# Altium footprint library Inductors_SMD.PcbLib: 18 footprints (part 1 of 2)
Each footprint in its own frame and in the unit in brackets; x right, y up, seen from the top. Pads: shape width x height; smd on the part's side, far side on the other; paste and mask are expansions set on the pad; w line width, h text height; cw(c..) or ccw(c..) is an arc to the next point about the centre after c.
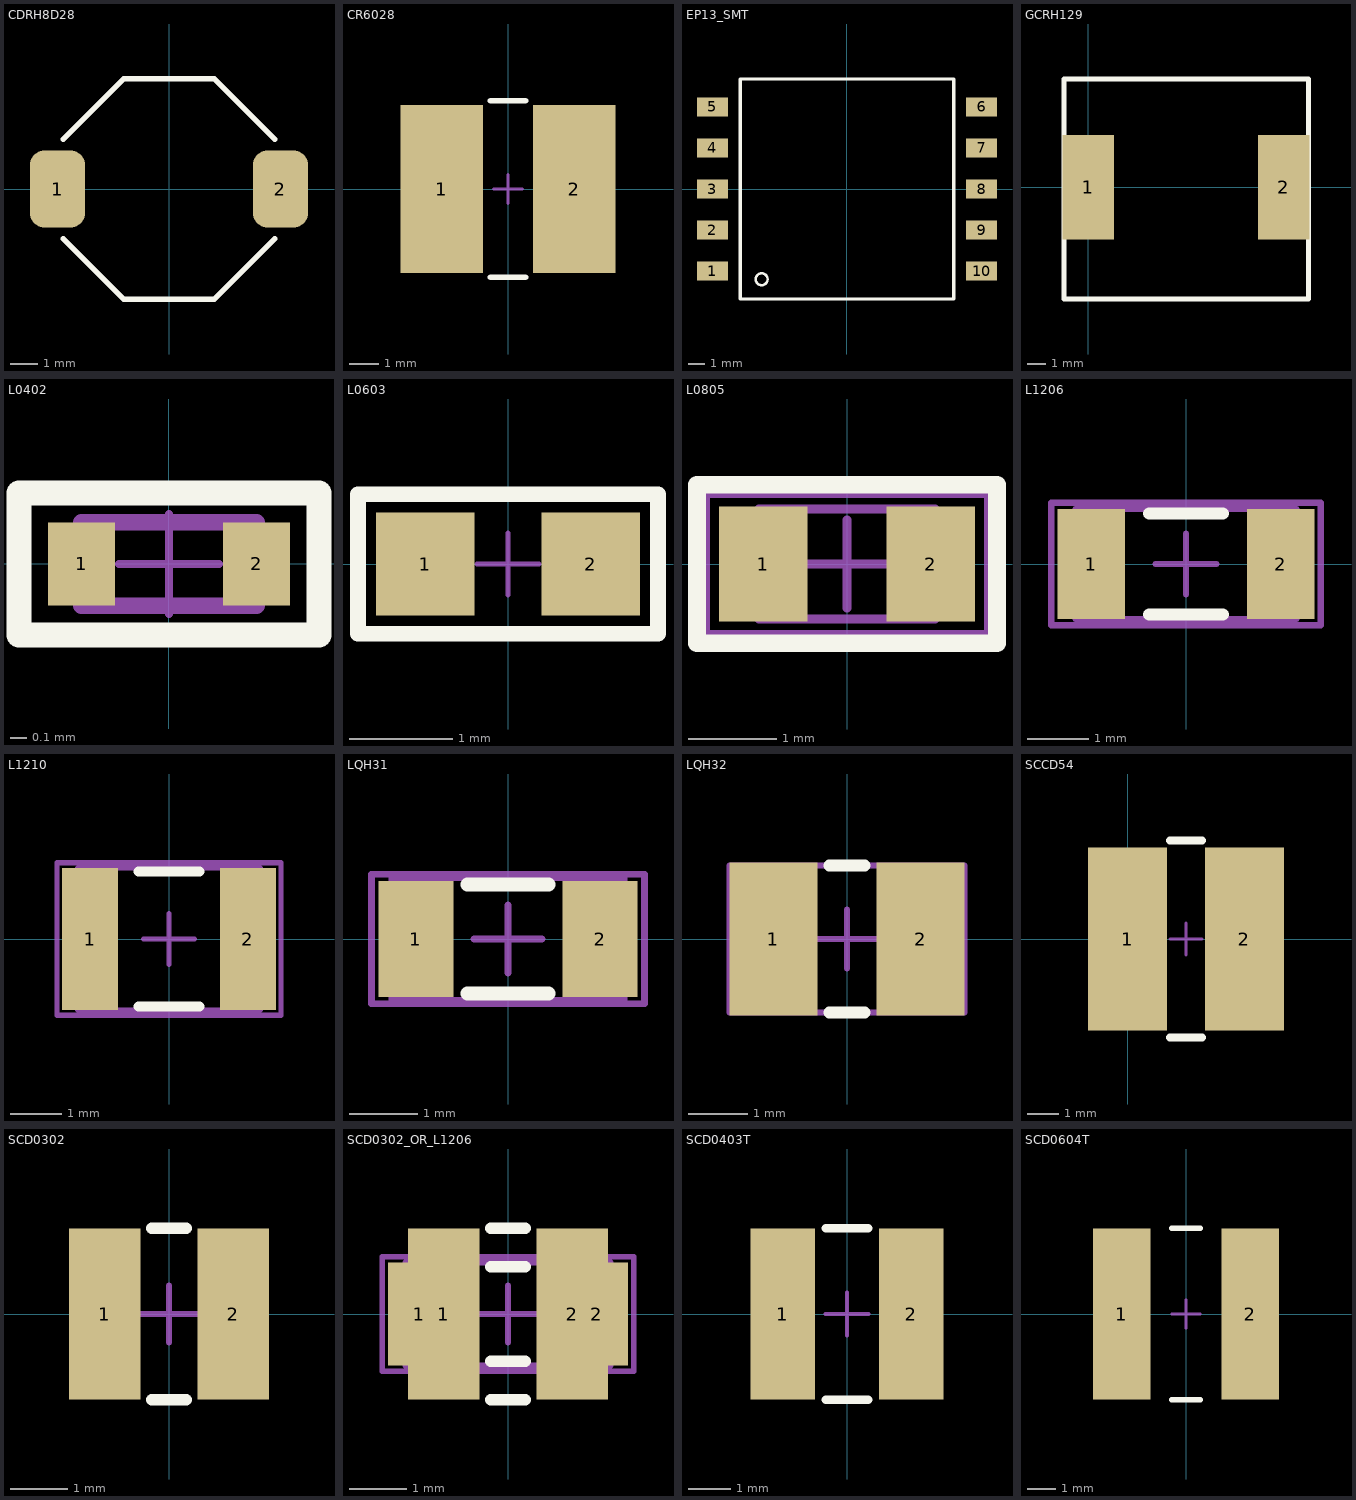
[diagram p0: the footprints below, top view; thin cyan lines are the x and y axes]

## CDRH8D28 [mm] "Footprint for SUMIDA power inductor CDRH8D28 Series"
height 3
pads (2):
  rrect50% 2x2.8 smd: 1(-4.05,0) 2(4.05,0)
Top Overlay:
  lines w0.2: -3.85,-1.8 -1.65,-4 1.65,-4 3.85,-1.8 ; -3.85,1.8 -1.65,4 1.65,4 3.85,1.8
3D body: height 3, standoff 0, extent -3.85,-4 3.85,4

## CR6028 [mm] "SMD,6.0x6.0x3.0mm"
height 3
pads (2):
  rect 2.8x5.7 smd: 1(-2.25,0) 2(2.25,0)
Top Overlay:
  lines w0.2: -0.6,-3 0.6,-3 ; -0.6,3 0.6,3
Mechanical 15:
  lines w0.1: -0.5,0 0.5,0 ; 0,-0.5 0,0.5
3D body: height 2.8, standoff 0, extent -3,-3 3,3

## EP13_SMT [mm] "EP13 SMT Core, 50W"
height 13
pads (10):
  rect 1.88x1.17 smd: 1(-8.2,-5) 2(-8.2,-2.5) 3(-8.2,0) 4(-8.2,2.5) 5(-8.2,5) 6(8.2,5) 7(8.2,2.5) 8(8.2,0) 9(8.2,-2.5) 10(8.2,-5)
Top Overlay:
  circle w0.15: c-5.2,-5.5 r0.361
  lines w0.2: -6.5,-6.7 6.5,-6.7 6.5,6.7 -6.5,6.7 -6.5,-6.7
3D body "TP13_SMT.STEP": height 12.33, standoff -0.05, extent -8.827,-6.7 8.826,6.762

## GCRH129 [mm]
pads (2):
  rect 2.8x5.7 smd: 1(0,0) 2(10.675,0)
Top Overlay:
  lines w0.254: -1.325,-6.1 12.025,-6.1 12.025,5.9 -1.325,5.9 -1.325,-6.1

## L0402 [mm] "Chip Inductor"
height 0.55
pads (2):
  rect 0.4x0.5 smd: 1(-0.525,0) 2(0.525,0)
Top Overlay:
  lines w0.15: -0.9,-0.425 -0.9,0.425 0.9,0.425 0.9,-0.425 -0.9,-0.425
Mechanical 13:
  lines w0.1: -0.525,-0.25 0.525,-0.25 0.525,0.25 -0.525,0.25 -0.525,-0.25
Mechanical 15:
  lines w0.05: -0.3,0 0.3,0 ; 0,-0.3 0,0.3 ; -0.9,-0.425 0.9,-0.425 0.9,0.425 -0.9,0.425 -0.9,-0.425
3D body "C0402.STEP": height 0.5, standoff 0, extent -0.5,-0.25 0.5,0.25

## L0603 [mm] "Chip Inductor"
height 0.9
pads (2):
  rect 0.95x1 smd: 1(-0.8,0) 2(0.8,0)
Top Overlay:
  lines w0.15: -1.45,-0.675 -1.45,0.675 1.45,0.675 1.45,-0.675 -1.45,-0.675
Mechanical 15:
  lines w0.05: -0.3,0 0.3,0 ; 0,-0.3 0,0.3 ; -1.45,-0.675 1.425,-0.675 1.425,0.675 -1.45,0.675 -1.45,-0.675
3D body "CAPC1608X87N.stp": height 0.87, standoff 0, extent -0.875,-0.475 0.875,0.475

## L0805 [mm] "Chip Inductor"
height 1.3
pads (2):
  rect 1x1.3 smd: 1(-0.95,0) 2(0.95,0)
Top Overlay:
  lines w0.2: -1.7,-0.9 1.7,-0.9 1.7,0.9 -1.7,0.9 -1.7,-0.9
Mechanical 13:
  lines w0.1: -1,-0.625 1,-0.625 1,0.625 -1,0.625 -1,-0.625
Mechanical 15:
  lines w0.1: -0.5,0 0.5,0 ; 0,-0.5 0,0.5 ; -1.6,-0.8 -1.6,0.8 1.6,0.8 1.6,-0.8 -1.6,-0.8
3D body "0805 cap.STEP": height 1.26, standoff -0.02, extent -1,-0.637 1,0.637

## L1206 [mm] "Chip Inductor"
height 3
pads (2):
  rect 1.1x1.8 smd: 1(-1.55,0) 2(1.55,0)
Top Overlay:
  lines w0.2: -0.6,-0.825 0.6,-0.825 ; -0.6,0.825 0.6,0.825
Mechanical 13:
  lines w0.1: -1.8,-0.9 1.8,-0.9 1.8,0.9 -1.8,0.9 -1.8,-0.9
Mechanical 15:
  lines w0.1: -0.5,0 0.5,0 ; 0,-0.5 0,0.5 ; -2.2,-1 -2.2,1 2.2,1 2.2,-1 -2.2,-1
3D body "CAP 1206-1.8mm.STEP": height 1.8, standoff 0, extent -1.6,-0.8 1.6,0.8

## L1210 [mm] "Chip Inductor"
height 1.7
pads (2):
  rect 1.1x2.8 smd: 1(-1.55,0) 2(1.55,0)
Top Overlay:
  lines w0.2: -0.6,-1.325 0.6,-1.325 ; -0.6,1.325 0.6,1.325
Mechanical 13:
  lines w0.1: -1.8,-1.4 1.8,-1.4 1.8,1.4 -1.8,1.4 -1.8,-1.4
Mechanical 15:
  lines w0.1: -0.5,0 0.5,0 ; 0,-0.5 0,0.5 ; -2.2,-1.5 2.2,-1.5 2.2,1.5 -2.2,1.5 -2.2,-1.5
3D body "CAP 1210-2.5mm.STEP": height 2.5, standoff 0, extent -1.6,-1.25 1.6,1.25

## LQH31 [mm] "Chip Inductor, Murata LQH31 Series"
height 3
pads (2):
  rect 1.1x1.7 smd: 1(-1.35,0) 2(1.35,0)
Top Overlay:
  lines w0.2: -0.6,-0.8 0.6,-0.8 ; -0.6,0.8 0.6,0.8
Mechanical 13:
  lines w0.1: -1.7,-0.9 -1.7,0.9 1.7,0.9 1.7,-0.9 -1.7,-0.9
Mechanical 15:
  lines w0.1: -0.5,0 0.5,0 ; 0,-0.5 0,0.5 ; -2,-0.95 -2,0.95 2,0.95 2,-0.95 -2,-0.95
3D body "Murata LQH31.STEP": height 1.8, standoff 0, extent -1.7,-0.807 1.7,0.808

## LQH32 [mm]
pads (2):
  rect 1.5x2.6 smd: 1(-1.25,0) 2(1.25,0)
Top Overlay:
  lines w0.2: -0.3,-1.25 0.3,-1.25 ; -0.3,1.25 0.3,1.25
Mechanical 13:
  lines w0.1: -1.7,-1.25 -1.7,1.25 1.7,1.25 1.7,-1.25 -1.7,-1.25
Mechanical 15:
  lines w0.1: -0.5,0 0.5,0 ; 0,-0.5 0,0.5 ; -2,-1.25 -2,1.25 2,1.25 2,-1.25 -2,-1.25
3D body "Murata LQH31.STEP": height 1.8, standoff 0, extent -1.7,-0.807 1.7,0.808

## SCCD54 [mm]
pads (2):
  rect 2.5x5.8 smd: 1(0,0) 2(3.7,0)
Top Overlay:
  lines w0.254: 1.35,-3.125 2.35,-3.125 ; 1.35,3.125 2.35,3.125
Mechanical 15:
  lines w0.1: 1.35,0 2.35,0 ; 1.85,-0.5 1.85,0.5

## SCD0302 [mm]
pads (2):
  rect 1.25x3 smd: 1(-1.125,0) 2(1.125,0)
Top Overlay:
  lines w0.2: -0.3,-1.5 0.3,-1.5 ; -0.3,1.5 0.3,1.5
Mechanical 15:
  lines w0.1: -0.5,0 0.5,0 ; 0,-0.5 0,0.5
3D body: height 2.2, standoff 0, extent -1.744,-1.494 1.25,1.494
3D body: height 2.2, standoff 0, extent -1.247,-1.5 1.747,1.488
3D body: height 2.2, standoff 0, extent -0.25,-1.5 0.25,1.5

## SCD0302_OR_L1206 [mm]
pads (4):
  rect 1.1x1.8 smd: 1(-1.55,0) 2(1.55,0)
  rect 1.25x3 smd: 1(-1.125,0) 2(1.125,0)
Top Overlay:
  lines w0.2: -0.3,-1.5 0.3,-1.5 ; -0.3,-0.825 0.3,-0.825 ; -0.3,0.825 0.3,0.825 ; -0.3,1.5 0.3,1.5
Mechanical 13:
  lines w0.1: -1.8,-0.9 1.8,-0.9 1.8,0.9 -1.8,0.9 -1.8,-0.9
Mechanical 15:
  lines w0.1: -2.2,-1 -2.2,1 2.2,1 2.2,-1 -2.2,-1 ; -0.5,0 0.5,0 -0.5,0 ; 0,-0.5 0,0.5 0,-0.5
3D body: height 2.2, standoff 0, extent -1.744,-1.494 1.25,1.494
3D body: height 2.2, standoff 0, extent -1.247,-1.5 1.747,1.488
3D body "CAP 1206-1.8mm.STEP": height 1.8, standoff 0, extent -1.6,-0.8 1.6,0.8
3D body: height 2.2, standoff 0, extent -0.25,-1.5 0.25,1.5

## SCD0403T [mm]
height 3
pads (2):
  rect 1.5x4 smd: 1(-1.5,0) 2(1.5,0)
Top Overlay:
  lines w0.2: -0.5,-2 0.5,-2 ; -0.5,2 0.5,2
Mechanical 15:
  lines w0.1: -0.5,0 0.5,0 ; 0,-0.5 0,0.5
3D body: height 3.2, standoff 0, extent -1.75,-2 2.25,2
3D body: height 3.2, standoff 0, extent -2.25,-2 1.75,2
3D body: height 3.2, standoff 0, extent -0.25,-2 0.25,2

## SCD0604T [mm]
height 4
pads (2):
  rect 2x6 smd: 1(-2.25,0) 2(2.25,0)
Top Overlay:
  lines w0.2: -0.5,-3 0.5,-3 ; -0.5,3 0.5,3
Mechanical 15:
  lines w0.1: -0.5,0 0.5,0 ; 0,-0.5 0,0.5
3D body: height 4.2, standoff 0, extent -2.75,-3 3.25,3
3D body: height 4.2, standoff 0, extent -3.25,-3 2.75,3
3D body: height 3.2, standoff 0, extent -0.25,-3 0.25,3